# EAGLE library part ATTINY4313-20? (library steves)
Atmel ATtiny4313 Microcontroller.
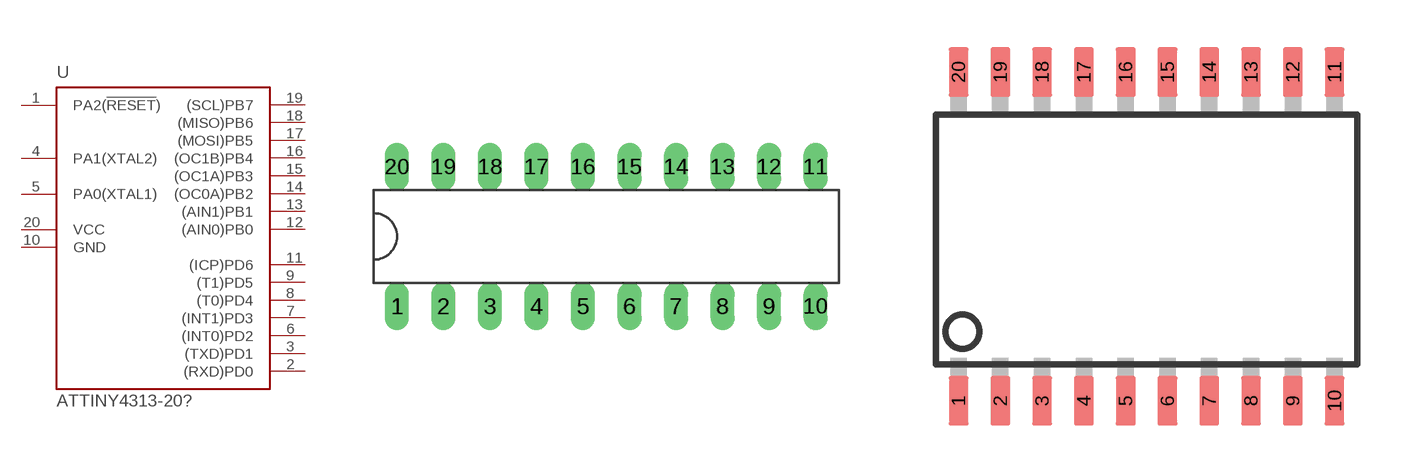
[diagram p12: symbol with the pads of DIL20; footprints DIL20, SOIC20S]

Designator prefix U

## ATTINY4313-20P  [DIL20]
1  PA2(!RESET!)
2  (RXD)PD0
3  (TXD)PD1
4  PA1(XTAL2)
5  PA0(XTAL1)
6  (INT0)PD2
7  (INT1)PD3
8  (T0)PD4
9  (T1)PD5
10  GND  pwr
11  (ICP)PD6
12  (AIN0)PB0
13  (AIN1)PB1
14  (OC0A)PB2
15  (OC1A)PB3
16  (OC1B)PB4
17  (MOSI)PB5
18  (MISO)PB6
19  (SCL)PB7
20  VCC  pwr

## ATTINY4313-20S  [SOIC20S]
Pads as for DIL20

## Footprint DIL20 (pad centres in mm)
Standard 20-pin DIL pad, 0.3 spacing.
drill 0.8 long: 1 0,0; 2 2.54,0; 3 5.08,0; 4 7.62,0; 5 10.16,0; 6 12.7,0; 7 15.24,0; 8 17.78,0; 9 20.32,0; 10 22.86,0; 11 22.86,7.62; 12 20.32,7.62; 13 17.78,7.62; 14 15.24,7.62; 15 12.7,7.62; 16 10.16,7.62; 17 7.62,7.62; 18 5.08,7.62; 19 2.54,7.62; 20 0,7.62

## Footprint SOIC20S (pad centres in mm)
smd 0.6 x 1.5: 1 1.905,-10.08; 2 3.175,-10.08; 3 4.445,-10.08; 4 5.715,-10.08; 5 6.985,-10.08; 6 8.255,-10.08; 7 9.525,-10.08; 8 10.795,-10.08; 9 12.065,-10.08; 10 13.335,-10.08; 11 13.335,-0.08; 12 12.065,-0.08; 13 10.795,-0.08; 14 9.525,-0.08; 15 8.255,-0.08; 16 6.985,-0.08; 17 5.715,-0.08; 18 4.445,-0.08; 19 3.175,-0.08; 20 1.905,-0.08